# Altium footprint library nixie.PcbLib: 12 footprints
Each footprint in its own frame and in the unit in brackets; x right, y up, seen from the top. Pads: shape width x height; smd on the part's side, far side on the other; paste and mask are expansions set on the pad; w line width, h text height; cw(c..) or ccw(c..) is an arc to the next point about the centre after c.
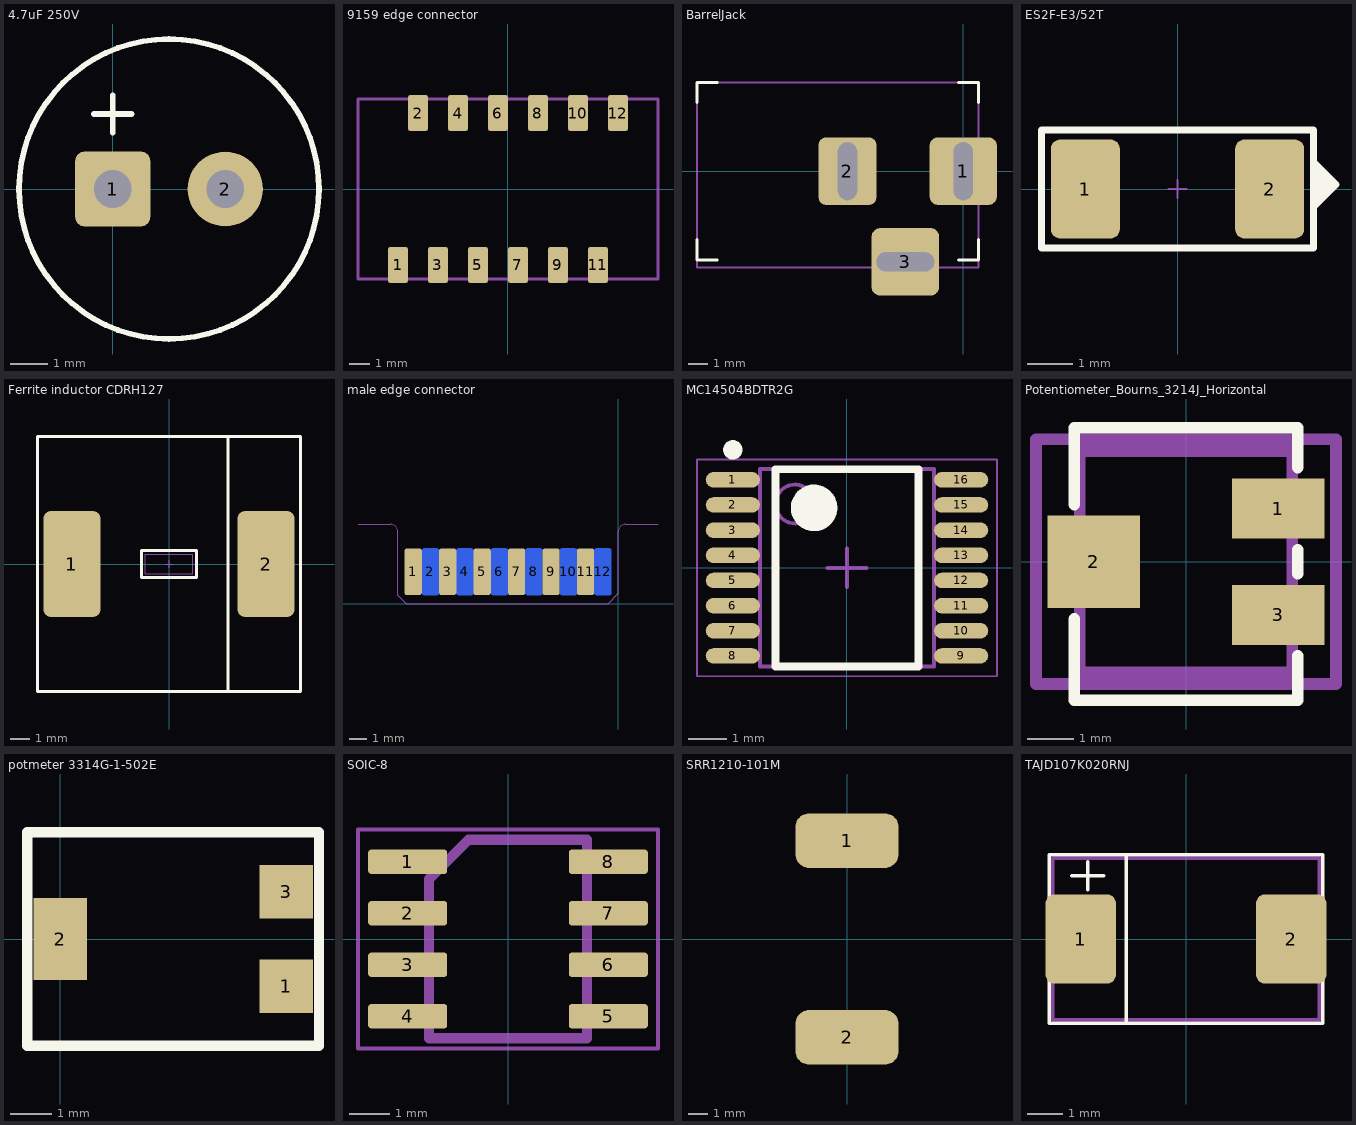
[diagram p0: the footprints below, top view; thin cyan lines are the x and y axes]

## 4.7uF 250V [mm]
pads (2):
  rrect25% 2x2 hole 1: 1(0,0)
  round 2 hole 1: 2(3,0)
Top Overlay:
  circle w0.15: c1.5,0 r4
  lines w0.15: -0.5,2 0.5,2 ; 0,1.5 0,2.5
3D body "90deg_capasitor v2.step": height 8.65, standoff -2.6, extent -2.747,-16.705 5.747,0.231

## 9159 edge connector [mm]
pads (12):
  rrect25% 1x1.8 smd: 1(-5.5,-3.8) 2(-4.5,3.8) 3(-3.5,-3.8) 4(-2.5,3.8) 5(-1.5,-3.8) 6(-0.5,3.8) 7(0.5,-3.8) 8(1.5,3.8) 9(2.5,-3.8) 10(3.5,3.8) 11(4.5,-3.8) 12(5.5,3.8)
Top Assembly (Mech7):
  lines w0.15: -7.5,-4.5 -7.5,4.5 7.5,4.5 7.5,-4.5 -7.5,-4.5
3D body "2x6 edge connector 9159.STEP": height 5.05, standoff 0, extent -7.5,-4.5 7.5,4.5

## BarrelJack [mm] "https://www.digikey.no/en/products/detail/cui-devices/PJ-002A/96962"
pads (3):
  rrect25% 3.5x3.5 hole 1 slot 3 at 90 deg: 1(0,0)
  rrect25% 3x3.5 hole 3 slot 1 at 0 deg: 2(-6,0)
  rrect25% 3.5x3.5 hole 1 slot 3 at 0 deg: 3(-3,-4.7)
Top Overlay:
  lines w0.153: -13.8,-3.55 -13.8,-4.6 -12.75,-4.6 ; -13.8,3.55 -13.8,4.6 -12.75,4.6 ; -0.25,-4.6 0.8,-4.6 0.8,-3.55 ; -0.25,4.6 0.8,4.6 0.8,3.55
Top Assembly:
  lines w0.1: -13.8,-5 -13.8,4.6 0.8,4.6 0.8,-5 -13.8,-5
3D body "CUI_DEVICES_PJ-002A.step": height 2.99, standoff -11.5, extent -13.7,-4.9 0.7,4.5

## ES2F-E3/52T [mm] "diode"
pads (2):
  rrect25% 1.52x2.18 smd: 1(-2.035,0) 2(2.035,0)
Top Overlay:
  region: 3,0.6 3,-0.4 3.5,0.1
  lines w0.153: -3,-1.3 -3,1.3 3,1.3 3,-1.3 -3,-1.3
  lines w0.154: 3,-0.4 3.5,0.1 3,0.6
Top Placement:
  lines w0.05: -0.2,0 0.2,0 ; 0,-0.2 0,0.2
3D body "diode.step": height 2.24, standoff -0.01, extent -2.7,-1.756 2.7,1.8

## Ferrite inductor CDRH127 [mm]
pads (2):
  rrect25% 2.9x5.4 smd: 1(-4.95,0) 2(4.95,0)
Top Overlay:
  lines w0.153: 3,-6.5 3,6.5 ; -6.7,-6.5 -6.7,6.5 6.7,6.5 6.7,-6.5 -6.7,-6.5 ; -1.4,-0.7 -0.7,-0.7 0.7,-0.7 1.4,-0.7 1.4,0.7 -1.4,0.7 -1.4,-0.7
Top Assembly:
  lines w0.05: -1.2,-0.5 -1.2,0.5 ; -1.2,-0.5 1.2,-0.5 ; -1.2,-0.5 -1.2,0.5 ; -1.2,-0.5 1.2,-0.5 ; -1.2,0.5 1.2,0.5 ; -1.2,0.5 1.2,0.5 ; 1.2,-0.5 1.2,0.5 ; 1.2,-0.5 1.2,0.5
Top Placement:
  lines w0.05: -0.2,0 0.2,0 ; 0,-0.2 0,0.2 ; -1.2,-0.5 1.2,-0.5 1.2,0.5 -1.2,0.5 -1.2,-0.5
3D body "inductor.step": height 8, standoff 0, extent -6.147,-6.149 6.147,6.149

## male edge connector [mm]
pads (12):
  rrect25% 1x2.7 smd: 1(-11.9,1.85) 3(-9.9,1.85) 5(-7.9,1.85) 7(-5.9,1.85) 9(-3.9,1.85) 11(-1.9,1.85)
  rrect25% 1x2.7 smd far side: 2(-10.9,1.85) 4(-8.9,1.85) 6(-6.9,1.85) 8(-4.9,1.85) 10(-2.9,1.85) 12(-0.9,1.85)
Top Solder:
  region: -0.6,0 0,0.6 0,4.2 -12.8,4.2 -12.8,0.5 -12.3,0
Bottom Solder:
  region: -0.6,0 0,0.6 0,4.2 -12.8,4.2 -12.8,0.5 -12.3,0
Mechanical 15:
  lines w0.02: -15.1,4.6 -13.2,4.6 cw(c-13.2,4.2) -12.8,4.2 -12.8,0.5 -12.3,0 -0.6,0 0,0.6 0,4.2 cw(c0.4,4.2) 0.4,4.6 2.3,4.6

## MC14504BDTR2G [mm] "TSOP, 16-Leads, Body 5.00x4.40mm, Pitch 0.65mm, IPC Medium Density"
height 1.2
pads (16):
  oval 1.4x0.4 smd: 1(-2.95,2.275) 2(-2.95,1.625) 3(-2.95,0.975) 4(-2.95,0.325) 5(-2.95,-0.325) 6(-2.95,-0.975) 7(-2.95,-1.625) 8(-2.95,-2.275) 9(2.95,-2.275) 10(2.95,-1.625) 11(2.95,-0.975) 12(2.95,-0.325) 13(2.95,0.325) 14(2.95,0.975) 15(2.95,1.625) 16(2.95,2.275)
Top Overlay:
  circle w0.6: c-0.85,1.55 r0.3
  circle w0.25: c-2.95,3.05 r0.125
  lines w0.2: -1.85,-2.55 1.85,-2.55 1.85,2.55 -1.85,2.55 -1.85,-2.55
Mechanical 13:
  circle w0.1: c-1.35,1.65 r0.5
  lines w0.1: -2.25,-2.55 2.25,-2.55 2.25,2.55 -2.25,2.55 -2.25,-2.55
Mechanical 15:
  lines w0.05: -3.875,-2.8 3.875,-2.8 3.875,2.8 -3.875,2.8 -3.875,-2.8
  lines w0.1: -0.5,0 0.5,0 ; 0,-0.5 0,0.5
3D body "TSOP65P640X120-16N.step": height 1.2, standoff 0, extent -3.2,-2.55 3.2,2.55

## Potentiometer_Bourns_3214J_Horizontal [mm]
pads (3):
  rect 2x1.3 smd: 1(2,1.15) 3(2,-1.15)
  rect 2x2 smd: 2(-2,0)
Top Overlay:
  lines w0.254: -2.42,-1.24 -2.42,-3 2.42,-3 2.42,-2.04 ; 2.42,-0.26 2.42,0.26 ; 2.42,2.04 2.42,2.9 -2.42,2.9 -2.42,1.24 ; -2.42,1.24 -2.42,2.14 -2.42,1.24
Bottom Placement:
  lines w0.254: -3.25,-2.65 3.25,-2.65 3.25,2.65 -3.25,2.65 -3.25,-2.65
Bottom 3D Body:
  lines w0.254: -2.3,-2.4 2.3,-2.4 2.3,2.4 -2.3,2.4 -2.3,-2.4 ; -2.3,0.24 -2.3,2.02 -2.3,0.24
3D body "BOURNS 3214W-1-503E.stp": height 5.29, standoff 0, extent -1.8,-2.513 2.155,2.313

## potmeter 3314G-1-502E [mm]
pads (3):
  rect 1.3x1.3 smd: 1(5.5,-1.15) 3(5.5,1.15)
  rect 1.3x2 smd: 2(0,0)
Top Overlay:
  lines w0.254: -0.8,-2.6 -0.8,2.6 6.3,2.6 6.3,-2.6 -0.8,-2.6
3D body "potmeter 3314G-1-502E.stp": height 2.71, standoff -0.02, extent -0.299,-2.5 5.899,2.5

## SOIC-8 [mm]
pads (8):
  rrect25% 1.95x0.6 smd: 1(-2.475,1.905) 2(-2.475,0.635) 3(-2.475,-0.635) 4(-2.475,-1.905) 5(2.475,-1.905) 6(2.475,-0.635) 7(2.475,0.635) 8(2.475,1.905)
Top Assembly:
  lines w0.1: -3.7,-2.7 -3.7,2.7 3.7,2.7 3.7,-2.7 -3.7,-2.7
Bottom 3D Body:
  lines w0.254: -1.95,-2.45 -1.95,1.475 -0.975,2.45 1.95,2.45 1.95,-2.45 -1.95,-2.45
3D body "SOIC8.stp": height -0.3, standoff -2.3, extent -3.082,-2.5 3.082,2.5

## SRR1210-101M [mm]
pads (2):
  rrect50% 5.3x2.8 smd: 1(0,5.05) 2(0,-5.05)
3D body "srr1210.stp": height 10, standoff 0, extent -6,-6 6,6

## TAJD107K020RNJ [mm]
pads (2):
  rrect25% 2x2.55 smd: 1(-3,0) 2(3,0)
Top Overlay:
  lines w0.1: -3.25,1.8 -2.35,1.8 ; -2.8,1.4 -2.8,2.2 ; -1.8,2.4 -1.7,2.4 -1.7,-2.4 ; -3.9,-2.4 -3.9,2.4 -3.8,2.4 -3.2,2.4 3.9,2.4 3.9,-2.4 -3.9,-2.4
Top Assembly:
  lines w0.1: -3.8,-2.3 3.8,-2.3 3.8,2.3 -3.8,2.3 -3.8,-2.3
3D body "Tantalum-Capacitor.step": height 3.15, standoff 0, extent -3.746,-2.248 3.746,2.248